# EAGLE library part TAS3001 (library EW_IC_Processors)
TAS3001C Digital Audio Processor
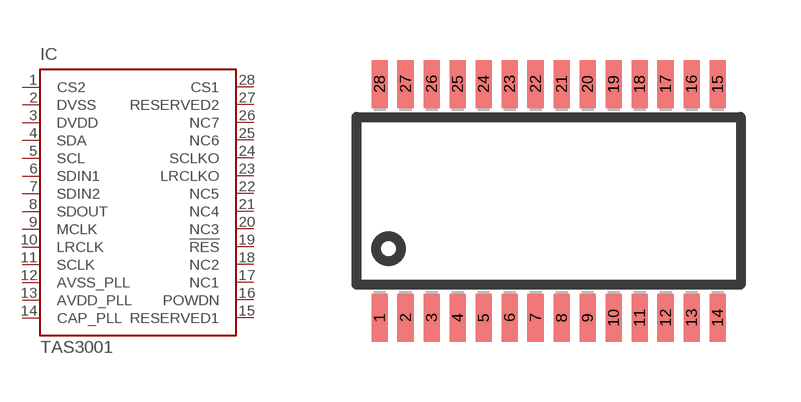
[diagram p27: symbol with the pads of PSO28; footprint PSO28]

Designator prefix IC

## TAS3001 (OC_FARNELL: unknown; OC_NEWARK: unknown)  [PSO28]
1  CS2  in
2  DVSS  pwr
3  DVDD  pwr
4  SDA
5  SCL
6  SDIN1  in
7  SDIN2  in
8  SDOUT  out
9  MCLK  in
10  LRCLK  in
11  SCLK  in
12  AVSS_PLL  pwr
13  AVDD_PLL  pwr
14  CAP_PLL  in
15  RESERVED1  in
16  POWDN  in
17  NC1  in
18  NC2  in
19  !RES  in
20  NC3  in
21  NC4  in
22  NC5  in
23  LRCLKO  out
24  SCLKO  out
25  NC6  in
26  NC7  in
27  RESERVED2  in
28  CS1  in

## Footprint PSO28 (pad centres in mm)
PLASTIC SMALL-OUTLINE PACKAGE PW (R-PDSO-G**) www.ti.com; tas3001.pdf
smd 0.4 x 1.2: 1 -4.225,-2.925; 2 -3.575,-2.925; 3 -2.925,-2.925; 4 -2.275,-2.925; 5 -1.625,-2.925; 6 -0.975,-2.925; 7 -0.325,-2.925; 8 0.325,-2.925; 9 0.975,-2.925; 10 1.625,-2.925; 11 2.275,-2.925; 12 2.925,-2.925; 13 3.575,-2.925; 14 4.225,-2.925; 15 4.225,2.925; 16 3.575,2.925; 17 2.925,2.925; 18 2.275,2.925; 19 1.625,2.925; 20 0.975,2.925; 21 0.325,2.925; 22 -0.325,2.925; 23 -0.975,2.925; 24 -1.625,2.925; 25 -2.275,2.925; 26 -2.925,2.925; 27 -3.575,2.925; 28 -4.225,2.925